# Altium schematic symbol library Schlib1.SchLib: 4 symbols
Pins are listed as number, name and electrical type; pins without a type are passive.

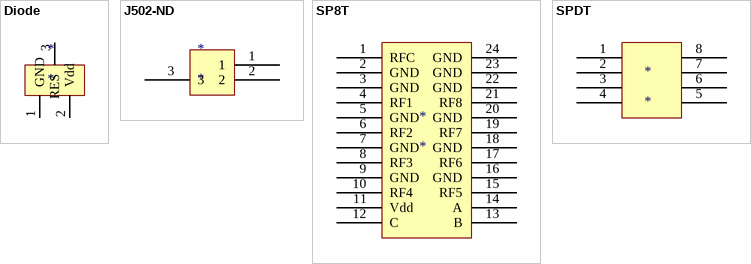
[diagram p0: symbols Diode to SPDT]

## Diode
designator *
pins: 1 GND, 2 Vdd, 3 RES

## J502-ND
designator *
footprint J502-ND
pins: 1, 2, 3

## SP8T
designator *
footprint SP8T (SOP, 24-Leads, Body 8.65x3.90mm, Pitch 0.64mm, IPC Medium Density)
pins: 1 RFC, 2 GND, 3 GND, 4 RF1, 5 GND, 6 RF2, 7 GND, 8 RF3, 9 GND, 10 RF4, 11 Vdd, 12 C, 13 B, 14 A, 15 RF5, 16 GND, 17 RF6, 18 GND, 19 RF7, 20 GND, 21 RF8, 22 GND, 23 GND, 24 GND

## SPDT
designator *
footprint SPDT
pins: 1 Vdd, 2 Vctl, 3 RFC, 4 EN, 5 RF1, 6 GND, 7 GND, 8 RF2